# Altium footprint library IC_NXP_TJA1040T-CM,118_eec_0.PcbLib: 1 footprints
Each footprint in its own frame and in the unit in brackets; x right, y up, seen from the top. Pads: shape width x height; smd on the part's side, far side on the other; paste and mask are expansions set on the pad; w line width, h text height; cw(c..) or ccw(c..) is an arc to the next point about the centre after c.
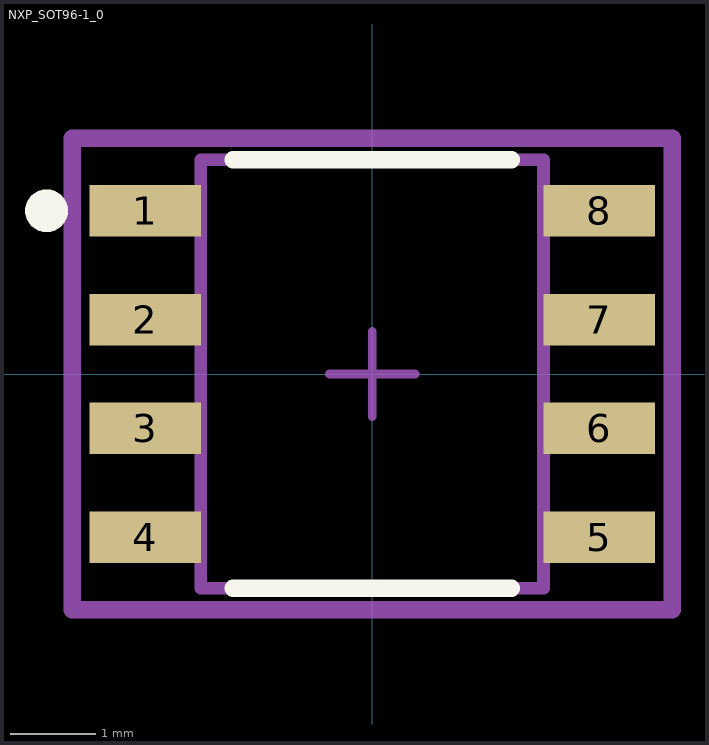
[diagram p0: the footprint, top view; thin cyan lines are the x and y axes]

## NXP_SOT96-1_0 [mm]
pads (8):
  rect 1.3x0.6 smd paste+0 mask+0: 1(-2.65,1.905) 2(-2.65,0.635) 3(-2.65,-0.635) 4(-2.65,-1.905) 5(2.65,-1.905) 6(2.65,-0.635) 7(2.65,0.635) 8(2.65,1.905)
Top Overlay:
  circle w0.25: c-3.8,1.905 r0.125
  lines w0.2: -1.625,-2.5 1.625,-2.5 ; -1.625,2.5 1.625,2.5
Mechanical 10:
  lines w0.2: -3.5,-2.75 3.5,-2.75 3.5,2.75 -3.5,2.75 -3.5,-2.75
  text ".Designator" at 0,0 h1
Mechanical 12:
  lines w0.15: -2,-2.5 2,-2.5 2,2.5 -2,2.5 -2,-2.5
Mechanical 15:
  lines w0.1: -0.5,0 0.5,0 ; 0,-0.5 0,0.5
  lines w0.2: -3.5,-2.75 3.5,-2.75 3.5,2.75 -3.5,2.75 -3.5,-2.75
3D body "IC_NXP_TJA1040T-CM,118_eec.STEP": height 0.25, standoff 0, extent -3.5,-2.75 3.5,2.75